# Altium footprint library PCB_Lib.PcbLib: 286 footprints (part 15 of 18)
Each footprint in its own frame and in the unit in brackets; x right, y up, seen from the top. Pads: shape width x height; smd on the part's side, far side on the other; paste and mask are expansions set on the pad; w line width, h text height; cw(c..) or ccw(c..) is an arc to the next point about the centre after c.
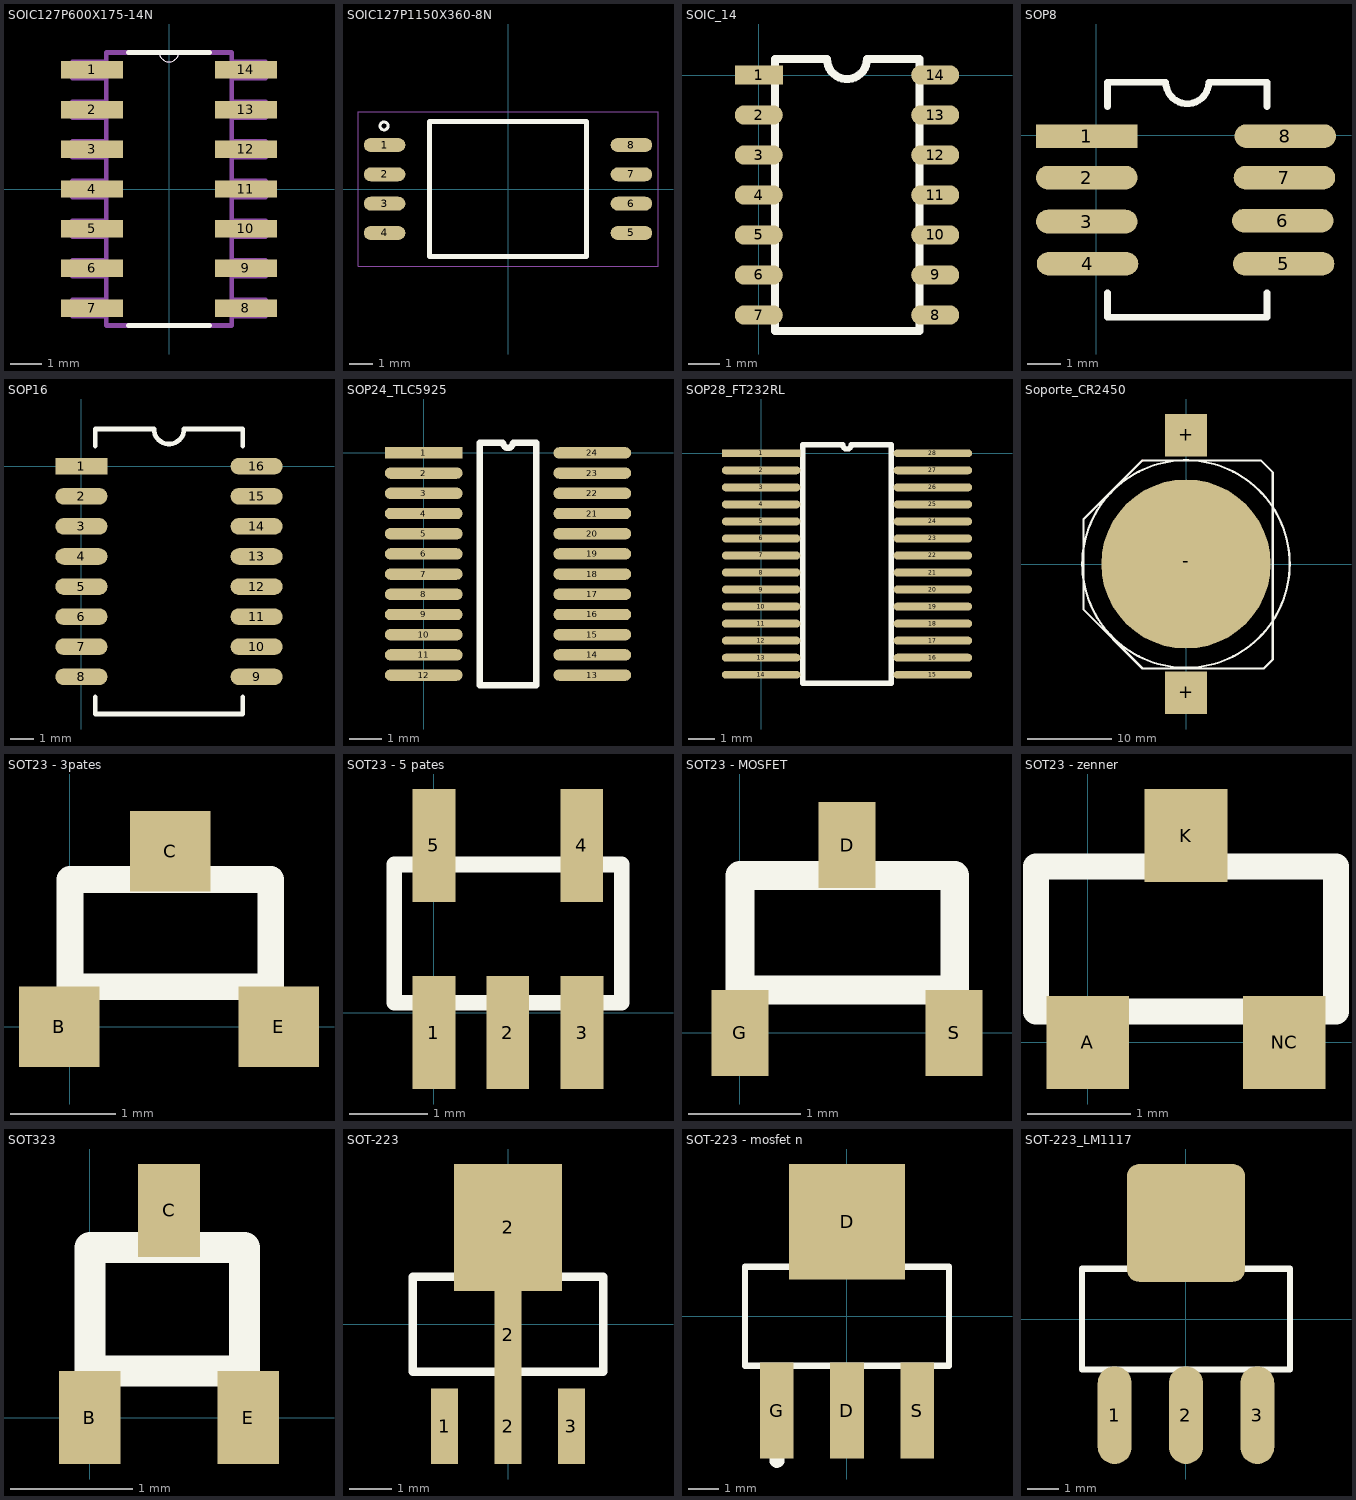
[diagram p14: the footprints below, top view; thin cyan lines are the x and y axes]

## SOIC127P600X175-14N [mil]
pads (14):
  rect 78x22 smd: 1(-97,150) 2(-97,100) 3(-97,50) 4(-97,0) 5(-97,-50) 6(-97,-100) 7(-97,-150) 8(97,-150) 9(97,-100) 10(97,-50) 11(97,0) 12(97,50) 13(97,100) 14(97,150)
Top Overlay:
  lines w0: -12,172 ccw(c0,172) 12,172
  lines w6: -51,-172 51,-172 ; -51,172 -12,172 12,172 51,172
Mechanical 4:
  lines w0: -12,172 ccw(c0,172) 12,172 cw(c0,172) -12,172
  lines w6: -122,-160 -79,-160 ; -122,-160 -122,-140 ; -122,-160 -79,-160 ; -122,-160 -122,-140 ; -122,-140 -79,-140 ; -122,-140 -79,-140 ; -122,-110 -79,-110 ; -122,-110 -122,-90 ; -122,-110 -79,-110 ; -122,-110 -122,-90 ; -122,-90 -79,-90 ; -122,-90 -79,-90 ; -122,-60 -79,-60 ; -122,-60 -122,-40 ; -122,-60 -79,-60 ; -122,-60 -122,-40 ; -122,-40 -79,-40 ; -122,-40 -79,-40 ; -122,-10 -79,-10 ; -122,-10 -122,10 ; -122,-10 -79,-10 ; -122,-10 -122,10 ; -122,10 -79,10 ; -122,10 -79,10 ; -122,40 -79,40 ; -122,40 -122,60 ; -122,40 -79,40 ; -122,40 -122,60 ; -122,60 -79,60 ; -122,60 -79,60 ; -122,90 -79,90 ; -122,90 -122,110 ; -122,90 -79,90 ; -122,90 -122,110 ; -122,110 -79,110 ; -122,110 -79,110 ; -122,140 -79,140 ; -122,140 -122,160 ; -122,140 -79,140 ; -122,140 -122,160 ; -122,160 -79,160 ; -122,160 -79,160 ; -79,-172 -79,172 ; -79,-172 79,-172 ; -79,-172 -79,172 ; -79,-172 79,-172 ; -79,-160 -79,-140 ; -79,-160 -79,-140 ; -79,-110 -79,-90 ; -79,-110 -79,-90 ; -79,-60 -79,-40 ; -79,-60 -79,-40 ; -79,-10 -79,10 ; -79,-10 -79,10 ; -79,40 -79,60 ; -79,40 -79,60 ; -79,90 -79,110 ; -79,90 -79,110 ; -79,140 -79,160 ; -79,140 -79,160 ; -79,172 -12,172 ; -79,172 -12,172 ; -12,172 12,172 ; -12,172 12,172 ; 12,172 79,172 ; 12,172 79,172 ; 79,-172 79,172 ; 79,-172 79,172 ; 79,-160 122,-160 ; 79,-160 79,-140 ; 79,-160 122,-160 ; 79,-160 79,-140 ; 79,-140 122,-140 ; 79,-140 122,-140 ; 79,-110 122,-110 ; 79,-110 79,-90 ; 79,-110 122,-110 ; 79,-110 79,-90 ; 79,-90 122,-90 ; 79,-90 122,-90 ; 79,-60 122,-60 ; 79,-60 79,-40 ; 79,-60 122,-60 ; 79,-60 79,-40 ; 79,-40 122,-40 ; 79,-40 122,-40 ; 79,-10 122,-10 ; 79,-10 79,10 ; 79,-10 122,-10 ; 79,-10 79,10 ; 79,10 122,10 ; 79,10 122,10 ; 79,40 122,40 ; 79,40 79,60 ; 79,40 122,40 ; 79,40 79,60 ; 79,60 122,60 ; 79,60 122,60 ; 79,90 122,90 ; 79,90 79,110 ; 79,90 122,90 ; 79,90 79,110 ; 79,110 122,110 ; 79,110 122,110 ; 79,140 122,140 ; 79,140 79,160 ; 79,140 122,140 ; 79,140 79,160 ; 79,160 122,160 ; 79,160 122,160 ; 122,-160 122,-140 ; 122,-160 122,-140 ; 122,-110 122,-90 ; 122,-110 122,-90 ; 122,-60 122,-40 ; 122,-60 122,-40 ; 122,-10 122,10 ; 122,-10 122,10 ; 122,40 122,60 ; 122,40 122,60 ; 122,90 122,110 ; 122,90 122,110 ; 122,140 122,160 ; 122,140 122,160

## SOIC127P1150X360-8N [mm]
pads (8):
  oval 1.8x0.6 smd: 1(-5.35,1.905) 2(-5.35,0.635) 3(-5.35,-0.635) 4(-5.35,-1.905) 5(5.35,-1.905) 6(5.35,-0.635) 7(5.35,0.635) 8(5.35,1.905)
Top Overlay:
  circle w0.127: c-5.37,2.733 r0.173
  lines w0.2: -3.404,-2.925 3.404,-2.925 3.404,2.925 -3.404,2.925 -3.404,-2.925
Mechanical 16:
  lines w0.05: -6.5,-3.35 6.5,-3.35 6.5,3.35 -6.5,3.35 -6.5,-3.35

## SOIC_14 [mil]
pads (14):
  rect 60x24 smd: 1(0,0)
  oval 60x24 smd: 2(0,-50) 3(0,-100) 4(0,-150) 5(0,-200) 6(0,-250) 7(0,-300) 8(220.47,-300) 9(220.47,-250) 10(220.47,-200) 11(220.47,-150) 12(220.47,-100) 13(220.47,-50) 14(220.47,0)
Top Overlay:
  lines w10: 20,-320 20,20 85.24,20 ccw(c110.24,20) 135.24,20 200.79,20 200.79,-320 95,-320 20,-320

## SOP8 [mm]
pads (8):
  rect 3x0.7 smd: 1(-0.275,-0.025)
  oval 3x0.7 smd: 2(-0.275,-1.25) 3(-0.275,-2.55) 4(-0.25,-3.8) 5(5.55,-3.8) 6(5.525,-2.525) 7(5.575,-1.25) 8(5.6,-0.025)
Top Overlay:
  lines w0.2: 0.34,-4.66 0.34,-5.38 5.06,-5.38 5.06,-4.66 ; 0.34,0.85 0.34,1.57 2.065,1.57 ccw(c2.7,1.57) 3.335,1.57 5.06,1.57 5.06,0.85

## SOP16 [mm]
pads (16):
  rect 2.2x0.7 smd: 1(0,0)
  oval 2.2x0.7 smd: 2(0,-1.27) 3(0,-2.54) 4(0,-3.81) 5(0,-5.08) 6(0,-6.35) 7(0,-7.62) 8(0,-8.89) 9(7.4,-8.89) 10(7.4,-7.62) 11(7.4,-6.35) 12(7.4,-5.08) 13(7.4,-3.81) 14(7.4,-2.54) 15(7.4,-1.27) 16(7.4,0)
Top Overlay:
  lines w0.2: 0.59,-9.74 0.59,-10.46 6.81,-10.46 6.81,-9.74 ; 0.59,0.85 0.59,1.57 3.065,1.57 ccw(c3.7,1.57) 4.335,1.57 6.81,1.57 6.81,0.85

## SOP24_TLC5925 [mm]
pads (24):
  rect 2.4x0.35 smd: 1(0,0)
  oval 2.4x0.35 smd: 2(0,-0.623) 3(0,-1.246) 4(0,-1.869) 5(0,-2.492) 6(0,-3.115) 7(0,-3.738) 8(0,-4.361) 9(0,-4.984) 10(0,-5.607) 11(0,-6.23) 12(0,-6.853) 13(5.2,-6.853) 14(5.2,-6.23) 15(5.2,-5.607) 16(5.2,-4.984) 17(5.2,-4.361) 18(5.2,-3.738) 19(5.2,-3.115) 20(5.2,-2.492) 21(5.2,-1.869) 22(5.2,-1.246) 23(5.2,-0.623) 24(5.2,0)
Top Overlay:
  lines w0.2: 1.735,-7.165 3.465,-7.165 3.465,0.312 2.756,0.312 cw(c2.6,0.312) 2.444,0.312 1.735,0.312 1.735,-7.165

## SOP28_FT232RL [mm]
pads (28):
  rect 3x0.3 smd: 1(0,0)
  oval 3x0.3 smd: 2(0,-0.65) 3(0,-1.3) 4(0,-1.95) 5(0,-2.6) 6(0,-3.25) 7(0,-3.9) 8(0,-4.55) 9(0,-5.2) 10(0,-5.85) 11(0,-6.5) 12(0,-7.15) 13(0,-7.8) 14(0,-8.45) 15(6.55,-8.45) 16(6.55,-7.8) 17(6.55,-7.15) 18(6.55,-6.5) 19(6.55,-5.85) 20(6.55,-5.2) 21(6.55,-4.55) 22(6.55,-3.9) 23(6.55,-3.25) 24(6.55,-2.6) 25(6.55,-1.95) 26(6.55,-1.3) 27(6.55,-0.65) 28(6.55,0)
Top Overlay:
  lines w0.2: 1.585,-8.775 4.965,-8.775 4.965,0.325 3.437,0.325 cw(c3.275,0.325) 3.113,0.325 1.585,0.325 1.585,-8.775

## Soporte_CR2450 [mm]
pads (3):
  rect 5x5 smd: +(0,-15.215) +(0,15.215)
  round 20 smd: -(0,0)
Top Layer:
  lines w0.254: -5.131,12.192 -5.131,12.243
Top Overlay:
  circle w0.254: c0,0 r12.25
  lines w0.254: -12.116,5.207 -12.116,-5.359 -5.131,-12.344 5.385,-12.344 9.169,-12.344 10.236,-11.278 10.236,-0.051 10.236,10.82 8.814,12.243 0.076,12.243 -5.131,12.243 -12.116,5.258

## SOT23 - 3pates [mil] "Transistor SMD"
pads (3):
  rect 30x30 smd: B(-4,0) C(37.4,65.62) E(78,0)
Top Overlay:
  lines w10: 0,15 35,15 75,15 75,55 0,55 0,15

## SOT23 - 5 pates [mm]
pads (5):
  rect 0.55x1.45 smd: 1(0,-0.254) 2(0.95,-0.254) 3(1.905,-0.254) 4(1.9,2.15) 5(0,2.15)
Top Overlay:
  lines w0.2: -0.508,0.127 -0.508,1.905 2.413,1.905 2.413,0.127 -0.508,0.127

## SOT23 - MOSFET [mil] "Transistor SMD"
pads (3):
  rect 20x30 smd: D(37.4,65.62) G(0,0) S(74.8,0)
Top Overlay:
  lines w10: 0,15 0,55 75,55 75,15 35,15 0,15

## SOT23 - zenner [mm] "Transistor SMD"
pads (3):
  rect 0.8x0.9 smd: A(0,0) K(0.95,2) NC(1.9,0)
Top Overlay:
  lines w0.254: -0.5,0.3 2.4,0.3 2.4,1.7 -0.5,1.7 -0.5,0.3

## SOT323 [mil] "SOT 23 más chico"
pads (3):
  rect 20x30 smd: B(0,0) C(25.59,66.93) E(51.18,0)
Top Overlay:
  lines w10: 0,15 35,15 50,15 50,35 50,55 0,55 0,15

## SOT-223 [mil] "SOT-223/SC-73; 4 Leads; Body 6.7 x 7.3 mm, inc. leads (LxW max)"
height 70.87
pads (5):
  rect 25x70 smd paste+0: 1(-59.06,-95)
  rect 25x70 smd: 2(0,-95) 3(59.06,-95)
  rect 25x100 smd: 2(0,-10)
  rect 100x118.11 smd: 2(0,90)
Top Overlay:
  lines w7.87: -88.58,-44.29 88.58,-44.29 88.58,44.29 -88.58,44.29 -88.58,-44.29

## SOT-223 - mosfet n [mm] "SOT-223/SC-73; 4 Leads; Body 6.7 x 7.3 mm, inc. leads (LxW max)"
height 1.8
pads (4):
  rect 1.1x3.15 smd: D(0,-3.1) G(-2.3,-3.1) S(2.3,-3.1)
  rect 3.8x3.8 smd: D(0,3.1)
Top Overlay:
  circle w0.25: c-2.3,-4.725 r0.125
  lines w0.2: -3.35,-1.625 -3.35,1.625 3.35,1.625 3.35,-1.625 -3.35,-1.625

## SOT-223_LM1117 [mm] "SOT-223/SC-73; 4 Leads; Body 6.7 x 7.3 mm, inc. leads (LxW max)"
height 1.8
pads (4):
  oval 1.1x3.15 smd: 1(-2.3,-3.1) 2(0,-3.1) 3(2.3,-3.1)
  rrect20% 3.8x3.8 smd: ""(0,3.1)
Top Overlay:
  lines w0.2: -3.35,-1.625 -3.35,1.625 3.35,1.625 3.35,-1.625 -3.35,-1.625